# Altium schematic symbol library kmilo17pet-NSC_Amplifier.SchLib: 1665 symbols (part 30 of 44)
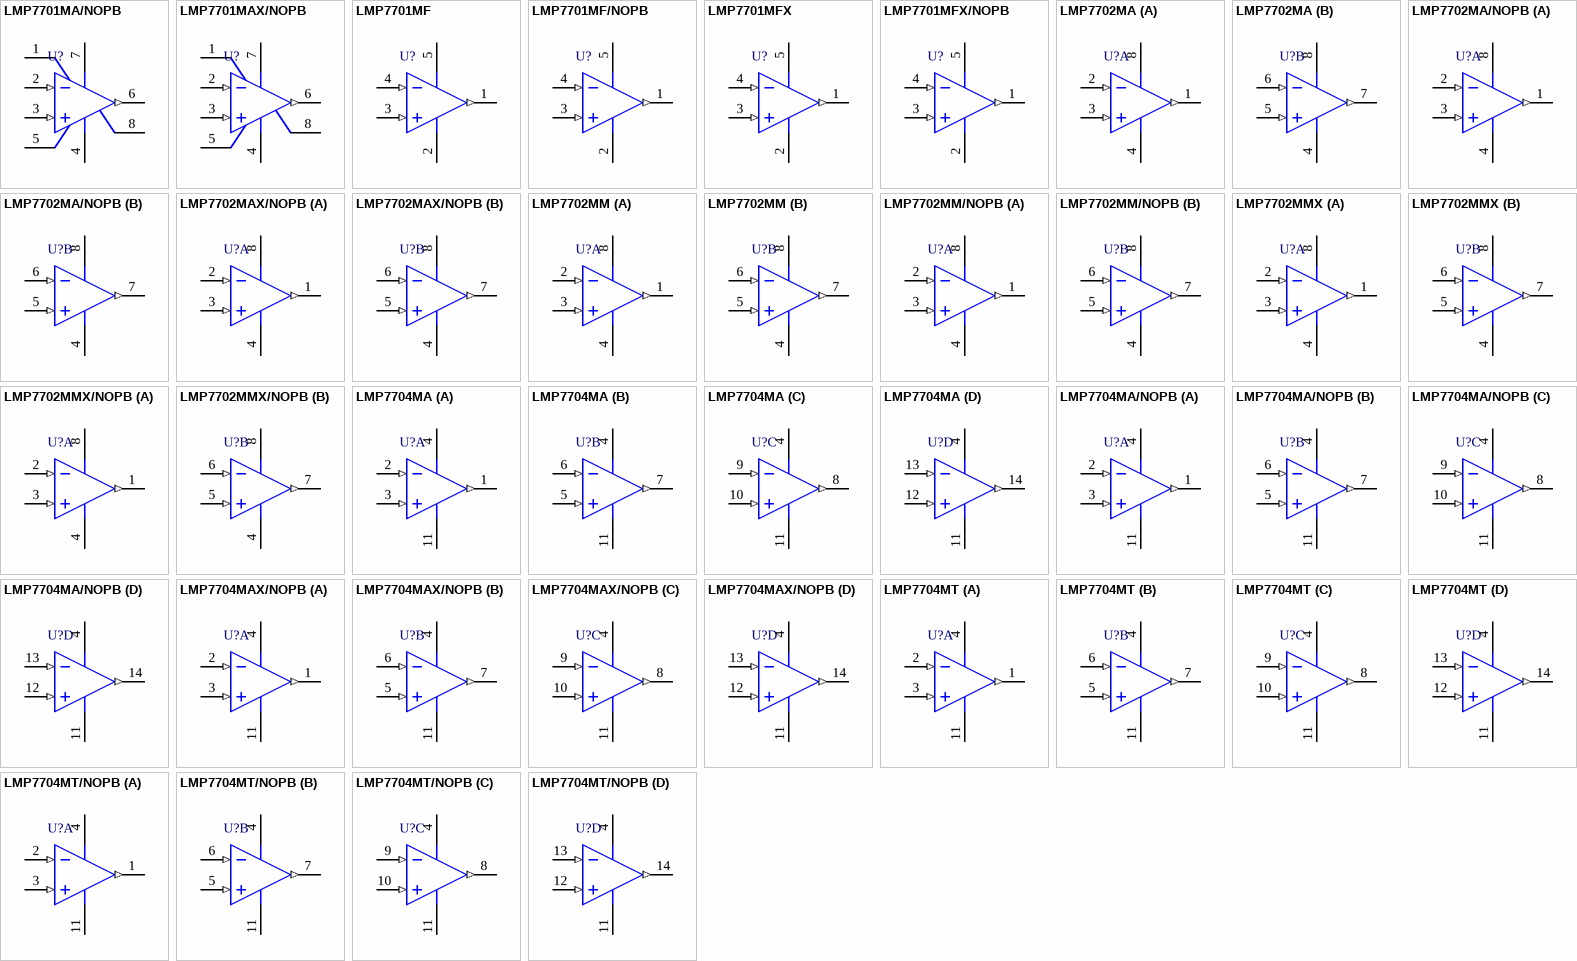
[diagram p113: symbols LMP7701MA/NOPB to LMP7704MT/NOPB]

## LMP7702MA/NOPB
designator U?
Precision, CMOS Input, RRIO, Wide Supply Range Amplifiers, 8-pin Narrow SOIC, Pb-Free; PartNumber: LMP7702MA/NOPB; Manufacturer: National Semiconductor; PackageTopMarking: NSZXTT*LMP77*02MA; PowerWise: N; High-Reliability: Y; DatasheetVersion: Jun-2008; PackageVersion: revM, May-2009; PackageReference: M08A; PackageDescription: SOIC Narrow, 4.9 x 3.9 x 1.45mm, 8 Lead, 1.27mm Pitch; RoHS: Y; PinCount: 8; CompType: Amplifiers; Code_JEDEC: MS-012-AA; Code_IPC: SOIC127P600-8; ComponentLink1Description: Manufacturer URL; ComponentLink1URL: http://www.national.com/; ComponentLink2Description: LMP7702 Datasheet; ComponentLink2URL: http://www.national.com/ds/LM/LMP7702.pdf; ComponentLink3Description: LMP7702 Web Page; ComponentLink3URL: http://www.national.com/pf/LM/LMP7702.html; ComponentLink4Description: M08A Package Page; ComponentLink4URL: http://www.national.com/packaging/folders/m08a.html
footprint M08A_N (SOIC, 8-Leads, Body 4.9x3.9mm, Pitch 1.27mm, IPC Medium Density)
footprint M08A_L (SOIC, 8-Leads, Body 4.9x3.9mm, Pitch 1.27mm, IPC High Density)
footprint M08A_M (SOIC, 8-Leads, Body 4.9x3.9mm, Pitch 1.27mm, IPC Low Density)
pins on every part: 4 V- (power), 8 V+ (power)
part A pins: 1 OUTA (out), 2 INA- (in), 3 INA+ (in)
part B pins: 5 INB+ (in), 6 INB- (in), 7 OUTB (out)

## LMP7702MAX/NOPB
designator U?
Precision, CMOS Input, RRIO, Wide Supply Range Amplifiers, 8-pin Narrow SOIC, Pb-Free; PartNumber: LMP7702MAX/NOPB; Manufacturer: National Semiconductor; PackageTopMarking: NSZXTT*LMP77*02MA; PowerWise: N; High-Reliability: Y; DatasheetVersion: Jun-2008; PackageVersion: revM, May-2009; PackageReference: M08A; PackageDescription: SOIC Narrow, 4.9 x 3.9 x 1.45mm, 8 Lead, 1.27mm Pitch; RoHS: Y; PinCount: 8; CompType: Amplifiers; Code_JEDEC: MS-012-AA; Code_IPC: SOIC127P600-8; ComponentLink1Description: Manufacturer URL; ComponentLink1URL: http://www.national.com/; ComponentLink2Description: LMP7702 Datasheet; ComponentLink2URL: http://www.national.com/ds/LM/LMP7702.pdf; ComponentLink3Description: LMP7702 Web Page; ComponentLink3URL: http://www.national.com/pf/LM/LMP7702.html; ComponentLink4Description: M08A Package Page; ComponentLink4URL: http://www.national.com/packaging/folders/m08a.html
footprint M08A_N (SOIC, 8-Leads, Body 4.9x3.9mm, Pitch 1.27mm, IPC Medium Density)
footprint M08A_L (SOIC, 8-Leads, Body 4.9x3.9mm, Pitch 1.27mm, IPC High Density)
footprint M08A_M (SOIC, 8-Leads, Body 4.9x3.9mm, Pitch 1.27mm, IPC Low Density)
pins on every part: 4 V- (power), 8 V+ (power)
part A pins: 1 OUTA (out), 2 INA- (in), 3 INA+ (in)
part B pins: 5 INB+ (in), 6 INB- (in), 7 OUTB (out)

## LMP7702MM
designator U?
Precision, CMOS Input, RRIO, Wide Supply Range Amplifiers, 8-pin Mini SOIC; PartNumber: LMP7702MM; Manufacturer: National Semiconductor; PackageTopMarking: ZXTT*AA3A; PowerWise: N; High-Reliability: Y; DatasheetVersion: Jun-2008; PackageVersion: revF, Apr-2008; PackageReference: MUA08A; PackageDescription: MINI SOIC, .118 x .118 x .034in, 8 Lead, .0256in Pitch; RoHS: N; PinCount: 8; CompType: Amplifiers; Code_JEDEC: MO-187-AA; ComponentLink1Description: Manufacturer URL; ComponentLink1URL: http://www.national.com/; ComponentLink2Description: LMP7702 Datasheet; ComponentLink2URL: http://www.national.com/ds/LM/LMP7702.pdf; ComponentLink3Description: LMP7702 Web Page; ComponentLink3URL: http://www.national.com/pf/LM/LMP7702.html; ComponentLink4Description: MUA08A Package Page; ComponentLink4URL: http://www.national.com/packaging/folders/mua08a.html
footprint MUA08A_N (TSOP, 8-Leads, Body 3x3mm, Pitch 0.65mm, IPC Medium Density)
footprint MUA08A_L (TSOP, 8-Leads, Body 3x3mm, Pitch 0.65mm, IPC High Density)
footprint MUA08A_M (TSOP, 8-Leads, Body 3x3mm, Pitch 0.65mm, IPC Low Density)
pins on every part: 4 V- (power), 8 V+ (power)
part A pins: 1 OUTA (out), 2 INA- (in), 3 INA+ (in)
part B pins: 5 INB+ (in), 6 INB- (in), 7 OUTB (out)

## LMP7702MM/NOPB
designator U?
Precision, CMOS Input, RRIO, Wide Supply Range Amplifiers, 8-pin Mini SOIC, Pb-Free; PartNumber: LMP7702MM/NOPB; Manufacturer: National Semiconductor; PackageTopMarking: ZXTT*AA3A; PowerWise: N; High-Reliability: Y; DatasheetVersion: Jun-2008; PackageVersion: revF, Apr-2008; PackageReference: MUA08A; PackageDescription: MINI SOIC, .118 x .118 x .034in, 8 Lead, .0256in Pitch; RoHS: Y; PinCount: 8; CompType: Amplifiers; Code_JEDEC: MO-187-AA; ComponentLink1Description: Manufacturer URL; ComponentLink1URL: http://www.national.com/; ComponentLink2Description: LMP7702 Datasheet; ComponentLink2URL: http://www.national.com/ds/LM/LMP7702.pdf; ComponentLink3Description: LMP7702 Web Page; ComponentLink3URL: http://www.national.com/pf/LM/LMP7702.html; ComponentLink4Description: MUA08A Package Page; ComponentLink4URL: http://www.national.com/packaging/folders/mua08a.html
footprint MUA08A_N (TSOP, 8-Leads, Body 3x3mm, Pitch 0.65mm, IPC Medium Density)
footprint MUA08A_L (TSOP, 8-Leads, Body 3x3mm, Pitch 0.65mm, IPC High Density)
footprint MUA08A_M (TSOP, 8-Leads, Body 3x3mm, Pitch 0.65mm, IPC Low Density)
pins on every part: 4 V- (power), 8 V+ (power)
part A pins: 1 OUTA (out), 2 INA- (in), 3 INA+ (in)
part B pins: 5 INB+ (in), 6 INB- (in), 7 OUTB (out)

## LMP7702MMX
designator U?
Precision, CMOS Input, RRIO, Wide Supply Range Amplifiers, 8-pin Mini SOIC; PartNumber: LMP7702MMX; Manufacturer: National Semiconductor; PackageTopMarking: ZXTT*AA3A; PowerWise: N; High-Reliability: Y; DatasheetVersion: Jun-2008; PackageVersion: revF, Apr-2008; PackageReference: MUA08A; PackageDescription: MINI SOIC, .118 x .118 x .034in, 8 Lead, .0256in Pitch; RoHS: N; PinCount: 8; CompType: Amplifiers; Code_JEDEC: MO-187-AA; ComponentLink1Description: Manufacturer URL; ComponentLink1URL: http://www.national.com/; ComponentLink2Description: LMP7702 Datasheet; ComponentLink2URL: http://www.national.com/ds/LM/LMP7702.pdf; ComponentLink3Description: LMP7702 Web Page; ComponentLink3URL: http://www.national.com/pf/LM/LMP7702.html; ComponentLink4Description: MUA08A Package Page; ComponentLink4URL: http://www.national.com/packaging/folders/mua08a.html
footprint MUA08A_N (TSOP, 8-Leads, Body 3x3mm, Pitch 0.65mm, IPC Medium Density)
footprint MUA08A_L (TSOP, 8-Leads, Body 3x3mm, Pitch 0.65mm, IPC High Density)
footprint MUA08A_M (TSOP, 8-Leads, Body 3x3mm, Pitch 0.65mm, IPC Low Density)
pins on every part: 4 V- (power), 8 V+ (power)
part A pins: 1 OUTA (out), 2 INA- (in), 3 INA+ (in)
part B pins: 5 INB+ (in), 6 INB- (in), 7 OUTB (out)

## LMP7702MMX/NOPB
designator U?
Precision, CMOS Input, RRIO, Wide Supply Range Amplifiers, 8-pin Mini SOIC, Pb-Free; PartNumber: LMP7702MMX/NOPB; Manufacturer: National Semiconductor; PackageTopMarking: ZXTT*AA3A; PowerWise: N; High-Reliability: Y; DatasheetVersion: Jun-2008; PackageVersion: revF, Apr-2008; PackageReference: MUA08A; PackageDescription: MINI SOIC, .118 x .118 x .034in, 8 Lead, .0256in Pitch; RoHS: Y; PinCount: 8; CompType: Amplifiers; Code_JEDEC: MO-187-AA; ComponentLink1Description: Manufacturer URL; ComponentLink1URL: http://www.national.com/; ComponentLink2Description: LMP7702 Datasheet; ComponentLink2URL: http://www.national.com/ds/LM/LMP7702.pdf; ComponentLink3Description: LMP7702 Web Page; ComponentLink3URL: http://www.national.com/pf/LM/LMP7702.html; ComponentLink4Description: MUA08A Package Page; ComponentLink4URL: http://www.national.com/packaging/folders/mua08a.html
footprint MUA08A_N (TSOP, 8-Leads, Body 3x3mm, Pitch 0.65mm, IPC Medium Density)
footprint MUA08A_L (TSOP, 8-Leads, Body 3x3mm, Pitch 0.65mm, IPC High Density)
footprint MUA08A_M (TSOP, 8-Leads, Body 3x3mm, Pitch 0.65mm, IPC Low Density)
pins on every part: 4 V- (power), 8 V+ (power)
part A pins: 1 OUTA (out), 2 INA- (in), 3 INA+ (in)
part B pins: 5 INB+ (in), 6 INB- (in), 7 OUTB (out)

## LMP7704MA
designator U?
Precision, CMOS Input, RRIO, Wide Supply Range Amplifiers, 14-pin Narrow SOIC; PartNumber: LMP7704MA; Manufacturer: National Semiconductor; PackageTopMarking: NSUZXYTT*LMP7704*MA; PowerWise: N; High-Reliability: Y; DatasheetVersion: Jun-2008; PackageVersion: revJ, Jan-1996; PackageReference: M14A; PackageDescription: Molded Package S.O., .150in Wide, 14 Lead; RoHS: Y; PinCount: 14; CompType: Amplifiers; Code_JEDEC: MS-012AB; Code_IPC: SOIC127P600-14; ComponentLink1Description: Manufacturer URL; ComponentLink1URL: http://www.national.com/; ComponentLink2Description: LMP7704 Datasheet; ComponentLink2URL: http://www.national.com/ds/LM/LMP7704.pdf; ComponentLink3Description: LMP7704 Web Page; ComponentLink3URL: http://www.national.com/pf/LM/LMP7704.html; ComponentLink4Description: M14A Package Page; ComponentLink4URL: http://www.national.com/packaging/folders/m14a.html
footprint M14A_N (SOIC, 14-Leads, Body 8.6x3.9mm, Pitch 1.27mm, IPC Medium Density)
footprint M14A_L (SOIC, 14-Leads, Body 8.6x3.9mm, Pitch 1.27mm, IPC High Density)
footprint M14A_M (SOIC, 14-Leads, Body 8.6x3.9mm, Pitch 1.27mm, IPC Low Density)
pins on every part: 4 V+ (power), 11 V- (power)
part A pins: 1 OUTA (out), 2 INA- (in), 3 INA+ (in)
part B pins: 5 INB+ (in), 6 INB- (in), 7 OUTB (out)
part C pins: 8 OUTC (out), 9 INC- (in), 10 INC+ (in)
part D pins: 12 IND+ (in), 13 IND- (in), 14 OUTD (out)

## LMP7704MA/NOPB
designator U?
Precision, CMOS Input, RRIO, Wide Supply Range Amplifiers, 14-pin Narrow SOIC, Pb-Free; PartNumber: LMP7704MA/NOPB; Manufacturer: National Semiconductor; PackageTopMarking: NSUZXYTTE#*LMP7704*MA; PowerWise: N; High-Reliability: Y; DatasheetVersion: Jun-2008; PackageVersion: revJ, Jan-1996; PackageReference: M14A; PackageDescription: Molded Package S.O., .150in Wide, 14 Lead; RoHS: Y; PinCount: 14; CompType: Amplifiers; Code_JEDEC: MS-012AB; Code_IPC: SOIC127P600-14; ComponentLink1Description: Manufacturer URL; ComponentLink1URL: http://www.national.com/; ComponentLink2Description: LMP7704 Datasheet; ComponentLink2URL: http://www.national.com/ds/LM/LMP7704.pdf; ComponentLink3Description: LMP7704 Web Page; ComponentLink3URL: http://www.national.com/pf/LM/LMP7704.html; ComponentLink4Description: M14A Package Page; ComponentLink4URL: http://www.national.com/packaging/folders/m14a.html
footprint M14A_N (SOIC, 14-Leads, Body 8.6x3.9mm, Pitch 1.27mm, IPC Medium Density)
footprint M14A_L (SOIC, 14-Leads, Body 8.6x3.9mm, Pitch 1.27mm, IPC High Density)
footprint M14A_M (SOIC, 14-Leads, Body 8.6x3.9mm, Pitch 1.27mm, IPC Low Density)
pins on every part: 4 V+ (power), 11 V- (power)
part A pins: 1 OUTA (out), 2 INA- (in), 3 INA+ (in)
part B pins: 5 INB+ (in), 6 INB- (in), 7 OUTB (out)
part C pins: 8 OUTC (out), 9 INC- (in), 10 INC+ (in)
part D pins: 12 IND+ (in), 13 IND- (in), 14 OUTD (out)

## LMP7704MAX/NOPB
designator U?
Precision, CMOS Input, RRIO, Wide Supply Range Amplifiers, 14-pin Narrow SOIC, Pb-Free; PartNumber: LMP7704MAX/NOPB; Manufacturer: National Semiconductor; PackageTopMarking: NSUZXYTTE#*LMP7704*MA; PowerWise: N; High-Reliability: Y; DatasheetVersion: Jun-2008; PackageVersion: revJ, Jan-1996; PackageReference: M14A; PackageDescription: Molded Package S.O., .150in Wide, 14 Lead; RoHS: Y; PinCount: 14; CompType: Amplifiers; Code_JEDEC: MS-012AB; Code_IPC: SOIC127P600-14; ComponentLink1Description: Manufacturer URL; ComponentLink1URL: http://www.national.com/; ComponentLink2Description: LMP7704 Datasheet; ComponentLink2URL: http://www.national.com/ds/LM/LMP7704.pdf; ComponentLink3Description: LMP7704 Web Page; ComponentLink3URL: http://www.national.com/pf/LM/LMP7704.html; ComponentLink4Description: M14A Package Page; ComponentLink4URL: http://www.national.com/packaging/folders/m14a.html
footprint M14A_N (SOIC, 14-Leads, Body 8.6x3.9mm, Pitch 1.27mm, IPC Medium Density)
footprint M14A_L (SOIC, 14-Leads, Body 8.6x3.9mm, Pitch 1.27mm, IPC High Density)
footprint M14A_M (SOIC, 14-Leads, Body 8.6x3.9mm, Pitch 1.27mm, IPC Low Density)
pins on every part: 4 V+ (power), 11 V- (power)
part A pins: 1 OUTA (out), 2 INA- (in), 3 INA+ (in)
part B pins: 5 INB+ (in), 6 INB- (in), 7 OUTB (out)
part C pins: 8 OUTC (out), 9 INC- (in), 10 INC+ (in)
part D pins: 12 IND+ (in), 13 IND- (in), 14 OUTD (out)

## LMP7704MT
designator U?
Precision, CMOS Input, RRIO, Wide Supply Range Amplifiers, 14-pin TSSOP; PartNumber: LMP7704MT; Manufacturer: National Semiconductor; PackageTopMarking: NSUZXYTT*LMP77*04MT; PowerWise: N; High-Reliability: Y; DatasheetVersion: Jun-2008; PackageVersion: revD, Jun-2003; PackageReference: MTC14; PackageDescription: Molded TSSOP, JEDEC, 5 x 4.4 x 0.9mm Body, 14 Lead, 0.65mm Pitch; RoHS: N; PinCount: 14; CompType: Amplifiers; Code_JEDEC: MO-153-AB-1; ComponentLink1Description: Manufacturer URL; ComponentLink1URL: http://www.national.com/; ComponentLink2Description: LMP7704 Datasheet; ComponentLink2URL: http://www.national.com/ds/LM/LMP7704.pdf; ComponentLink3Description: LMP7704 Web Page; ComponentLink3URL: http://www.national.com/pf/LM/LMP7704.html; ComponentLink4Description: MTC14 Package Page; ComponentLink4URL: http://www.national.com/packaging/folders/mtc14.html
footprint MTC14_N (TSOP, 14-Leads, Body 5x4.4mm, Pitch 0.65mm, IPC Medium Density)
footprint MTC14_L (TSOP, 14-Leads, Body 5x4.4mm, Pitch 0.65mm, IPC High Density)
footprint MTC14_M (TSOP, 14-Leads, Body 5x4.4mm, Pitch 0.65mm, IPC Low Density)
pins on every part: 4 V+ (power), 11 V- (power)
part A pins: 1 OUTA (out), 2 INA- (in), 3 INA+ (in)
part B pins: 5 INB+ (in), 6 INB- (in), 7 OUTB (out)
part C pins: 8 OUTC (out), 9 INC- (in), 10 INC+ (in)
part D pins: 12 IND+ (in), 13 IND- (in), 14 OUTD (out)

## LMP7704MT/NOPB
designator U?
Precision, CMOS Input, RRIO, Wide Supply Range Amplifiers, 14-pin TSSOP, Pb-Free; PartNumber: LMP7704MT/NOPB; Manufacturer: National Semiconductor; PackageTopMarking: NSUZXYTT*LMP77*04MT; PowerWise: N; High-Reliability: Y; DatasheetVersion: Jun-2008; PackageVersion: revD, Jun-2003; PackageReference: MTC14; PackageDescription: Molded TSSOP, JEDEC, 5 x 4.4 x 0.9mm Body, 14 Lead, 0.65mm Pitch; RoHS: Y; PinCount: 14; CompType: Amplifiers; Code_JEDEC: MO-153-AB-1; ComponentLink1Description: Manufacturer URL; ComponentLink1URL: http://www.national.com/; ComponentLink2Description: LMP7704 Datasheet; ComponentLink2URL: http://www.national.com/ds/LM/LMP7704.pdf; ComponentLink3Description: LMP7704 Web Page; ComponentLink3URL: http://www.national.com/pf/LM/LMP7704.html; ComponentLink4Description: MTC14 Package Page; ComponentLink4URL: http://www.national.com/packaging/folders/mtc14.html
footprint MTC14_N (TSOP, 14-Leads, Body 5x4.4mm, Pitch 0.65mm, IPC Medium Density)
footprint MTC14_L (TSOP, 14-Leads, Body 5x4.4mm, Pitch 0.65mm, IPC High Density)
footprint MTC14_M (TSOP, 14-Leads, Body 5x4.4mm, Pitch 0.65mm, IPC Low Density)
pins on every part: 4 V+ (power), 11 V- (power)
part A pins: 1 OUTA (out), 2 INA- (in), 3 INA+ (in)
part B pins: 5 INB+ (in), 6 INB- (in), 7 OUTB (out)
part C pins: 8 OUTC (out), 9 INC- (in), 10 INC+ (in)
part D pins: 12 IND+ (in), 13 IND- (in), 14 OUTD (out)

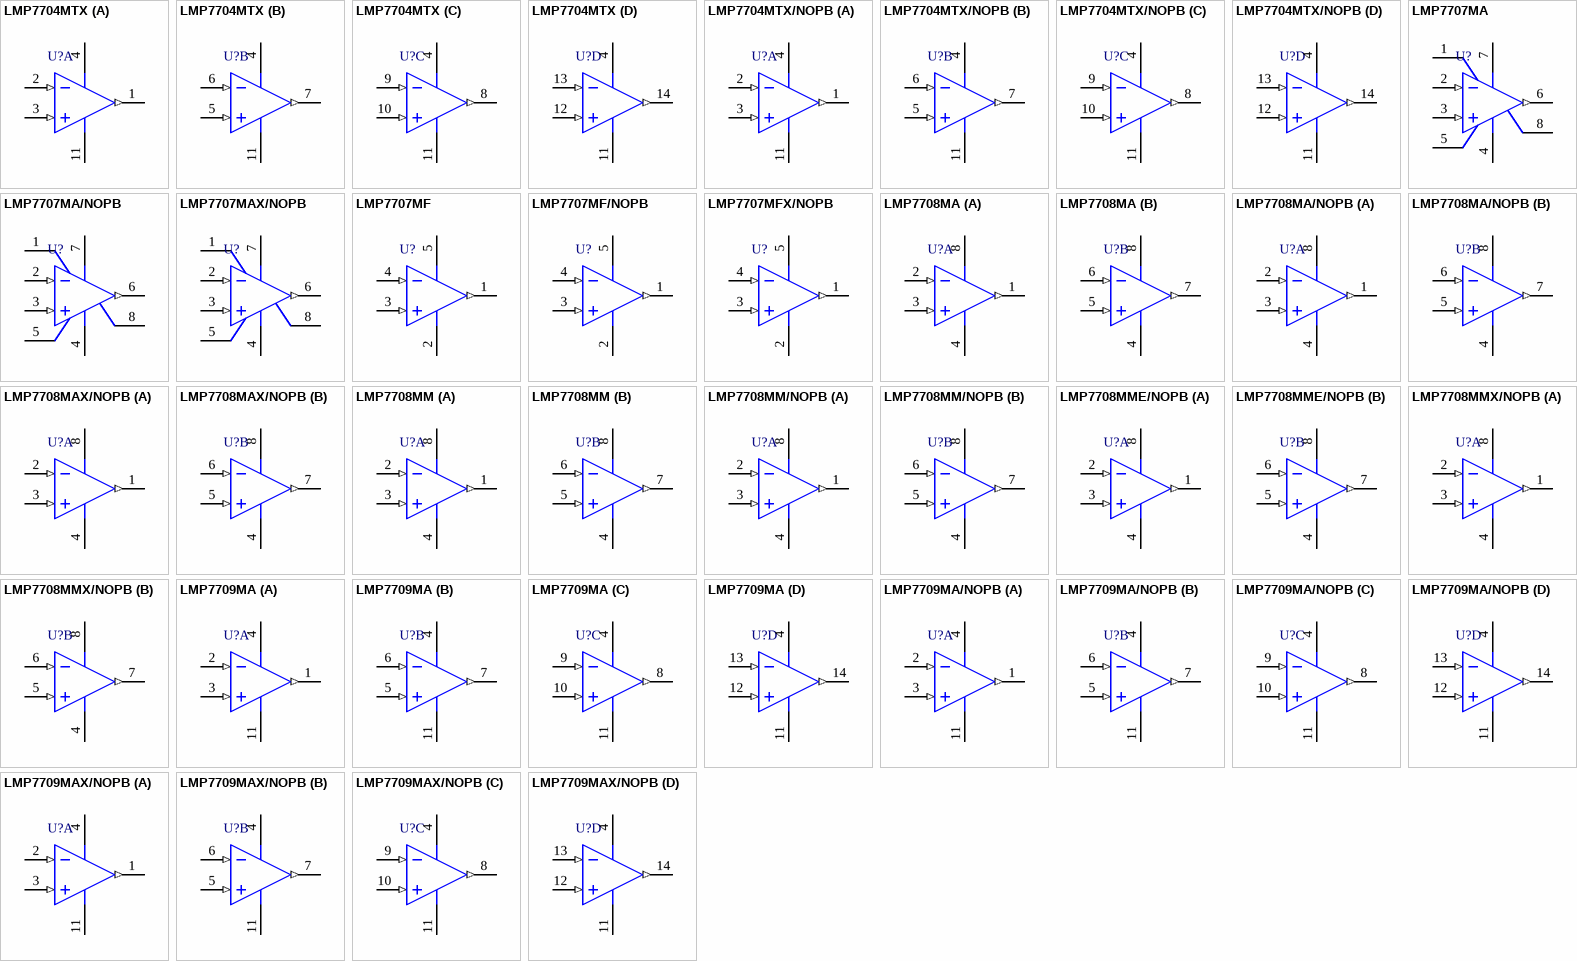
[diagram p60: symbols LMP7704MTX to LMP7709MAX/NOPB]

## LMP7704MTX
designator U?
Precision, CMOS Input, RRIO, Wide Supply Range Amplifiers, 14-pin TSSOP; PartNumber: LMP7704MTX; Manufacturer: National Semiconductor; PackageTopMarking: NSUZXYTT*LMP77*04MT; PowerWise: N; High-Reliability: Y; DatasheetVersion: Jun-2008; PackageVersion: revD, Jun-2003; PackageReference: MTC14; PackageDescription: Molded TSSOP, JEDEC, 5 x 4.4 x 0.9mm Body, 14 Lead, 0.65mm Pitch; RoHS: N; PinCount: 14; CompType: Amplifiers; Code_JEDEC: MO-153-AB-1; ComponentLink1Description: Manufacturer URL; ComponentLink1URL: http://www.national.com/; ComponentLink2Description: LMP7704 Datasheet; ComponentLink2URL: http://www.national.com/ds/LM/LMP7704.pdf; ComponentLink3Description: LMP7704 Web Page; ComponentLink3URL: http://www.national.com/pf/LM/LMP7704.html; ComponentLink4Description: MTC14 Package Page; ComponentLink4URL: http://www.national.com/packaging/folders/mtc14.html
footprint MTC14_N (TSOP, 14-Leads, Body 5x4.4mm, Pitch 0.65mm, IPC Medium Density)
footprint MTC14_L (TSOP, 14-Leads, Body 5x4.4mm, Pitch 0.65mm, IPC High Density)
footprint MTC14_M (TSOP, 14-Leads, Body 5x4.4mm, Pitch 0.65mm, IPC Low Density)
pins on every part: 4 V+ (power), 11 V- (power)
part A pins: 1 OUTA (out), 2 INA- (in), 3 INA+ (in)
part B pins: 5 INB+ (in), 6 INB- (in), 7 OUTB (out)
part C pins: 8 OUTC (out), 9 INC- (in), 10 INC+ (in)
part D pins: 12 IND+ (in), 13 IND- (in), 14 OUTD (out)

## LMP7704MTX/NOPB
designator U?
Precision, CMOS Input, RRIO, Wide Supply Range Amplifiers, 14-pin TSSOP, Pb-Free; PartNumber: LMP7704MTX/NOPB; Manufacturer: National Semiconductor; PackageTopMarking: NSUZXYTT*LMP77*04MT; PowerWise: N; High-Reliability: Y; DatasheetVersion: Jun-2008; PackageVersion: revD, Jun-2003; PackageReference: MTC14; PackageDescription: Molded TSSOP, JEDEC, 5 x 4.4 x 0.9mm Body, 14 Lead, 0.65mm Pitch; RoHS: Y; PinCount: 14; CompType: Amplifiers; Code_JEDEC: MO-153-AB-1; ComponentLink1Description: Manufacturer URL; ComponentLink1URL: http://www.national.com/; ComponentLink2Description: LMP7704 Datasheet; ComponentLink2URL: http://www.national.com/ds/LM/LMP7704.pdf; ComponentLink3Description: LMP7704 Web Page; ComponentLink3URL: http://www.national.com/pf/LM/LMP7704.html; ComponentLink4Description: MTC14 Package Page; ComponentLink4URL: http://www.national.com/packaging/folders/mtc14.html
footprint MTC14_N (TSOP, 14-Leads, Body 5x4.4mm, Pitch 0.65mm, IPC Medium Density)
footprint MTC14_L (TSOP, 14-Leads, Body 5x4.4mm, Pitch 0.65mm, IPC High Density)
footprint MTC14_M (TSOP, 14-Leads, Body 5x4.4mm, Pitch 0.65mm, IPC Low Density)
pins on every part: 4 V+ (power), 11 V- (power)
part A pins: 1 OUTA (out), 2 INA- (in), 3 INA+ (in)
part B pins: 5 INB+ (in), 6 INB- (in), 7 OUTB (out)
part C pins: 8 OUTC (out), 9 INC- (in), 10 INC+ (in)
part D pins: 12 IND+ (in), 13 IND- (in), 14 OUTD (out)

## LMP7707MA
designator U?
Precision, CMOS Input, RRIO, Wide Supply Range Decompensated Amplifier, 8-pin Narrow SOIC; PartNumber: LMP7707MA; Manufacturer: National Semiconductor; PackageTopMarking: NSZXTT*LMP77*07MA; PowerWise: N; CompType: Amplifiers; High-Reliability: Y; DatasheetVersion: Jul-2008; PackageVersion: revM, May-2009; PackageReference: M08A; PackageDescription: SOIC Narrow, 4.9 x 3.9 x 1.45mm, 8 Lead, 1.27mm Pitch; RoHS: Y; PinCount: 8; Code_JEDEC: MS-012-AA; Code_IPC: SOIC127P600-8; ComponentLink1Description: Manufacturer URL; ComponentLink1URL: http://www.national.com/; ComponentLink2Description: LMP7707 Datasheet; ComponentLink2URL: http://www.national.com/ds/LM/LMP7707.pdf; ComponentLink3Description: LMP7707 Web Page; ComponentLink3URL: http://www.national.com/pf/LM/LMP7707.html; ComponentLink4Description: M08A Package Page; ComponentLink4URL: http://www.national.com/packaging/folders/m08a.html
footprint M08A_N (SOIC, 8-Leads, Body 4.9x3.9mm, Pitch 1.27mm, IPC Medium Density)
footprint M08A_L (SOIC, 8-Leads, Body 4.9x3.9mm, Pitch 1.27mm, IPC High Density)
footprint M08A_M (SOIC, 8-Leads, Body 4.9x3.9mm, Pitch 1.27mm, IPC Low Density)
pins: 1 NC, 2 IN- (in), 3 IN+ (in), 4 V- (power), 5 NC, 6 OUT (out), 7 V+ (power), 8 NC

## LMP7707MA/NOPB
designator U?
Precision, CMOS Input, RRIO, Wide Supply Range Decompensated Amplifier, 8-pin Narrow SOIC, Pb-Free; PartNumber: LMP7707MA/NOPB; Manufacturer: National Semiconductor; PackageTopMarking: NSZXTT*LMP77*07MA; PowerWise: N; CompType: Amplifiers; High-Reliability: Y; DatasheetVersion: Jul-2008; PackageVersion: revM, May-2009; PackageReference: M08A; PackageDescription: SOIC Narrow, 4.9 x 3.9 x 1.45mm, 8 Lead, 1.27mm Pitch; RoHS: Y; PinCount: 8; Code_JEDEC: MS-012-AA; Code_IPC: SOIC127P600-8; ComponentLink1Description: Manufacturer URL; ComponentLink1URL: http://www.national.com/; ComponentLink2Description: LMP7707 Datasheet; ComponentLink2URL: http://www.national.com/ds/LM/LMP7707.pdf; ComponentLink3Description: LMP7707 Web Page; ComponentLink3URL: http://www.national.com/pf/LM/LMP7707.html; ComponentLink4Description: M08A Package Page; ComponentLink4URL: http://www.national.com/packaging/folders/m08a.html
footprint M08A_N (SOIC, 8-Leads, Body 4.9x3.9mm, Pitch 1.27mm, IPC Medium Density)
footprint M08A_L (SOIC, 8-Leads, Body 4.9x3.9mm, Pitch 1.27mm, IPC High Density)
footprint M08A_M (SOIC, 8-Leads, Body 4.9x3.9mm, Pitch 1.27mm, IPC Low Density)
pins: 1 NC, 2 IN- (in), 3 IN+ (in), 4 V- (power), 5 NC, 6 OUT (out), 7 V+ (power), 8 NC

## LMP7707MAX/NOPB
designator U?
Precision, CMOS Input, RRIO, Wide Supply Range Decompensated Amplifier, 8-pin Narrow SOIC, Pb-Free; PartNumber: LMP7707MAX/NOPB; Manufacturer: National Semiconductor; PackageTopMarking: NSZXTT*LMP77*07MA; PowerWise: N; CompType: Amplifiers; High-Reliability: Y; DatasheetVersion: Jul-2008; PackageVersion: revM, May-2009; PackageReference: M08A; PackageDescription: SOIC Narrow, 4.9 x 3.9 x 1.45mm, 8 Lead, 1.27mm Pitch; RoHS: Y; PinCount: 8; Code_JEDEC: MS-012-AA; Code_IPC: SOIC127P600-8; ComponentLink1Description: Manufacturer URL; ComponentLink1URL: http://www.national.com/; ComponentLink2Description: LMP7707 Datasheet; ComponentLink2URL: http://www.national.com/ds/LM/LMP7707.pdf; ComponentLink3Description: LMP7707 Web Page; ComponentLink3URL: http://www.national.com/pf/LM/LMP7707.html; ComponentLink4Description: M08A Package Page; ComponentLink4URL: http://www.national.com/packaging/folders/m08a.html
footprint M08A_N (SOIC, 8-Leads, Body 4.9x3.9mm, Pitch 1.27mm, IPC Medium Density)
footprint M08A_L (SOIC, 8-Leads, Body 4.9x3.9mm, Pitch 1.27mm, IPC High Density)
footprint M08A_M (SOIC, 8-Leads, Body 4.9x3.9mm, Pitch 1.27mm, IPC Low Density)
pins: 1 NC, 2 IN- (in), 3 IN+ (in), 4 V- (power), 5 NC, 6 OUT (out), 7 V+ (power), 8 NC

## LMP7707MF
designator U?
Precision, CMOS Input, RRIO, Wide Supply Range Decompensated Amplifier, 5-pin SOT-23; PartNumber: LMP7707MF; Manufacturer: National Semiconductor; PackageTopMarking: AH4A*XTT; PowerWise: Y; CompType: Amplifiers; DatasheetVersion: Jul-2008; PackageVersion: revD, Aug-2008; PackageReference: MF05A; PackageDescription: Molded SOT-23, .115 x .063 x .040 in Body, 5 Lead, .0375 in Pitch; RoHS: Y; PinCount: 5; High-Reliability: Y; ComponentLink1Description: Manufacturer URL; ComponentLink1URL: http://www.national.com/; ComponentLink2Description: LMP7707 Datasheet; ComponentLink2URL: http://www.national.com/ds/LM/LMP7707.pdf; ComponentLink3Description: LMP7707 Web Page; ComponentLink3URL: http://www.national.com/pf/LM/LMP7707.html; ComponentLink4Description: MF05A Package Page; ComponentLink4URL: http://www.national.com/packaging/folders/mf05a.html
footprint MF05A_N (SOT23, 5-Leads, Body 2.9x1.6mm, Pitch 0.95mm, Lead Span 2.8mm, IPC Medium Density)
footprint MF05A_L (SOT23, 5-Leads, Body 2.9x1.6mm, Pitch 0.95mm, Lead Span 2.8mm, IPC High Density)
footprint MF05A_M (SOT23, 5-Leads, Body 2.9x1.6mm, Pitch 0.95mm, Lead Span 2.8mm, IPC Low Density)
pins: 1 OUT (out), 2 V- (power), 3 IN+ (in), 4 IN- (in), 5 V+ (power)

## LMP7707MF/NOPB
designator U?
Precision, CMOS Input, RRIO, Wide Supply Range Decompensated Amplifier, 5-pin SOT-23, Pb-Free; PartNumber: LMP7707MF/NOPB; Manufacturer: National Semiconductor; PackageTopMarking: AH4A*XTT; PowerWise: Y; CompType: Amplifiers; DatasheetVersion: Jul-2008; PackageVersion: revD, Aug-2008; PackageReference: MF05A; PackageDescription: Molded SOT-23, .115 x .063 x .040 in Body, 5 Lead, .0375 in Pitch; RoHS: Y; PinCount: 5; High-Reliability: Y; ComponentLink1Description: Manufacturer URL; ComponentLink1URL: http://www.national.com/; ComponentLink2Description: LMP7707 Datasheet; ComponentLink2URL: http://www.national.com/ds/LM/LMP7707.pdf; ComponentLink3Description: LMP7707 Web Page; ComponentLink3URL: http://www.national.com/pf/LM/LMP7707.html; ComponentLink4Description: MF05A Package Page; ComponentLink4URL: http://www.national.com/packaging/folders/mf05a.html
footprint MF05A_N (SOT23, 5-Leads, Body 2.9x1.6mm, Pitch 0.95mm, Lead Span 2.8mm, IPC Medium Density)
footprint MF05A_L (SOT23, 5-Leads, Body 2.9x1.6mm, Pitch 0.95mm, Lead Span 2.8mm, IPC High Density)
footprint MF05A_M (SOT23, 5-Leads, Body 2.9x1.6mm, Pitch 0.95mm, Lead Span 2.8mm, IPC Low Density)
pins: 1 OUT (out), 2 V- (power), 3 IN+ (in), 4 IN- (in), 5 V+ (power)

## LMP7707MFX/NOPB
designator U?
Precision, CMOS Input, RRIO, Wide Supply Range Decompensated Amplifier, 5-pin SOT-23, Pb-Free; PartNumber: LMP7707MFX/NOPB; Manufacturer: National Semiconductor; PackageTopMarking: AH4A*XTT; PowerWise: Y; CompType: Amplifiers; DatasheetVersion: Jul-2008; PackageVersion: revD, Aug-2008; PackageReference: MF05A; PackageDescription: Molded SOT-23, .115 x .063 x .040 in Body, 5 Lead, .0375 in Pitch; RoHS: Y; PinCount: 5; High-Reliability: Y; ComponentLink1Description: Manufacturer URL; ComponentLink1URL: http://www.national.com/; ComponentLink2Description: LMP7707 Datasheet; ComponentLink2URL: http://www.national.com/ds/LM/LMP7707.pdf; ComponentLink3Description: LMP7707 Web Page; ComponentLink3URL: http://www.national.com/pf/LM/LMP7707.html; ComponentLink4Description: MF05A Package Page; ComponentLink4URL: http://www.national.com/packaging/folders/mf05a.html
footprint MF05A_N (SOT23, 5-Leads, Body 2.9x1.6mm, Pitch 0.95mm, Lead Span 2.8mm, IPC Medium Density)
footprint MF05A_L (SOT23, 5-Leads, Body 2.9x1.6mm, Pitch 0.95mm, Lead Span 2.8mm, IPC High Density)
footprint MF05A_M (SOT23, 5-Leads, Body 2.9x1.6mm, Pitch 0.95mm, Lead Span 2.8mm, IPC Low Density)
pins: 1 OUT (out), 2 V- (power), 3 IN+ (in), 4 IN- (in), 5 V+ (power)

## LMP7708MA
designator U?
Precision, CMOS Input, RRIO, Wide Supply Range Decompensated Amplifier, 8-pin Narrow SOIC; PartNumber: LMP7708MA; Manufacturer: National Semiconductor; PackageTopMarking: NSZXTT*LMP77*08MA; PowerWise: Y; CompType: Amplifiers; DatasheetVersion: Jul-2008; PackageVersion: revM, May-2009; PackageReference: M08A; PackageDescription: SOIC Narrow, 4.9 x 3.9 x 1.45mm, 8 Lead, 1.27mm Pitch; RoHS: Y; PinCount: 8; High-Reliability: Y; Code_JEDEC: MS-012-AA; Code_IPC: SOIC127P600-8; ComponentLink1Description: Manufacturer URL; ComponentLink1URL: http://www.national.com/; ComponentLink2Description: LMP7708 Datasheet; ComponentLink2URL: http://www.national.com/ds/LM/LMP7708.pdf; ComponentLink3Description: LMP7708 Web Page; ComponentLink3URL: http://www.national.com/pf/LM/LMP7708.html; ComponentLink4Description: M08A Package Page; ComponentLink4URL: http://www.national.com/packaging/folders/m08a.html
footprint M08A_N (SOIC, 8-Leads, Body 4.9x3.9mm, Pitch 1.27mm, IPC Medium Density)
footprint M08A_L (SOIC, 8-Leads, Body 4.9x3.9mm, Pitch 1.27mm, IPC High Density)
footprint M08A_M (SOIC, 8-Leads, Body 4.9x3.9mm, Pitch 1.27mm, IPC Low Density)
pins on every part: 4 V- (power), 8 V+ (power)
part A pins: 1 OUTA (out), 2 INA- (in), 3 INA+ (in)
part B pins: 5 INB+ (in), 6 INB- (in), 7 OUTB (out)

## LMP7708MA/NOPB
designator U?
Precision, CMOS Input, RRIO, Wide Supply Range Decompensated Amplifier, 8-pin Narrow SOIC, Pb-Free; PartNumber: LMP7708MA/NOPB; Manufacturer: National Semiconductor; PackageTopMarking: NSZXTT*LMP77*08MA; PowerWise: Y; CompType: Amplifiers; DatasheetVersion: Jul-2008; PackageVersion: revM, May-2009; PackageReference: M08A; PackageDescription: SOIC Narrow, 4.9 x 3.9 x 1.45mm, 8 Lead, 1.27mm Pitch; RoHS: Y; PinCount: 8; High-Reliability: Y; Code_JEDEC: MS-012-AA; Code_IPC: SOIC127P600-8; ComponentLink1Description: Manufacturer URL; ComponentLink1URL: http://www.national.com/; ComponentLink2Description: LMP7708 Datasheet; ComponentLink2URL: http://www.national.com/ds/LM/LMP7708.pdf; ComponentLink3Description: LMP7708 Web Page; ComponentLink3URL: http://www.national.com/pf/LM/LMP7708.html; ComponentLink4Description: M08A Package Page; ComponentLink4URL: http://www.national.com/packaging/folders/m08a.html
footprint M08A_N (SOIC, 8-Leads, Body 4.9x3.9mm, Pitch 1.27mm, IPC Medium Density)
footprint M08A_L (SOIC, 8-Leads, Body 4.9x3.9mm, Pitch 1.27mm, IPC High Density)
footprint M08A_M (SOIC, 8-Leads, Body 4.9x3.9mm, Pitch 1.27mm, IPC Low Density)
pins on every part: 4 V- (power), 8 V+ (power)
part A pins: 1 OUTA (out), 2 INA- (in), 3 INA+ (in)
part B pins: 5 INB+ (in), 6 INB- (in), 7 OUTB (out)

## LMP7708MAX/NOPB
designator U?
Precision, CMOS Input, RRIO, Wide Supply Range Decompensated Amplifier, 8-pin Narrow SOIC, Pb-Free; PartNumber: LMP7708MAX/NOPB; Manufacturer: National Semiconductor; PackageTopMarking: NSZXTT*LMP77*08MA; PowerWise: Y; CompType: Amplifiers; DatasheetVersion: Jul-2008; PackageVersion: revM, May-2009; PackageReference: M08A; PackageDescription: SOIC Narrow, 4.9 x 3.9 x 1.45mm, 8 Lead, 1.27mm Pitch; RoHS: Y; PinCount: 8; High-Reliability: Y; Code_JEDEC: MS-012-AA; Code_IPC: SOIC127P600-8; ComponentLink1Description: Manufacturer URL; ComponentLink1URL: http://www.national.com/; ComponentLink2Description: LMP7708 Datasheet; ComponentLink2URL: http://www.national.com/ds/LM/LMP7708.pdf; ComponentLink3Description: LMP7708 Web Page; ComponentLink3URL: http://www.national.com/pf/LM/LMP7708.html; ComponentLink4Description: M08A Package Page; ComponentLink4URL: http://www.national.com/packaging/folders/m08a.html
footprint M08A_N (SOIC, 8-Leads, Body 4.9x3.9mm, Pitch 1.27mm, IPC Medium Density)
footprint M08A_L (SOIC, 8-Leads, Body 4.9x3.9mm, Pitch 1.27mm, IPC High Density)
footprint M08A_M (SOIC, 8-Leads, Body 4.9x3.9mm, Pitch 1.27mm, IPC Low Density)
pins on every part: 4 V- (power), 8 V+ (power)
part A pins: 1 OUTA (out), 2 INA- (in), 3 INA+ (in)
part B pins: 5 INB+ (in), 6 INB- (in), 7 OUTB (out)

## LMP7708MM
designator U?
Precision, CMOS Input, RRIO, Wide Supply Range Decompensated Amplifier, 8-pin Mini SOIC; PartNumber: LMP7708MM; Manufacturer: National Semiconductor; PackageTopMarking: ZXTT*AJ4A; PowerWise: Y; CompType: Amplifiers; DatasheetVersion: Jul-2008; PackageVersion: revF, Apr-2008; PackageReference: MUA08A; PackageDescription: MINI SOIC, .118 x .118 x .034in, 8 Lead, .0256in Pitch; RoHS: Y; PinCount: 8; High-Reliability: Y; Code_JEDEC: MO-187-AA; ComponentLink1Description: Manufacturer URL; ComponentLink1URL: http://www.national.com/; ComponentLink2Description: LMP7708 Datasheet; ComponentLink2URL: http://www.national.com/ds/LM/LMP7708.pdf; ComponentLink3Description: LMP7708 Web Page; ComponentLink3URL: http://www.national.com/pf/LM/LMP7708.html; ComponentLink4Description: MUA08A Package Page; ComponentLink4URL: http://www.national.com/packaging/folders/mua08a.html
footprint MUA08A_N (TSOP, 8-Leads, Body 3x3mm, Pitch 0.65mm, IPC Medium Density)
footprint MUA08A_L (TSOP, 8-Leads, Body 3x3mm, Pitch 0.65mm, IPC High Density)
footprint MUA08A_M (TSOP, 8-Leads, Body 3x3mm, Pitch 0.65mm, IPC Low Density)
pins on every part: 4 V- (power), 8 V+ (power)
part A pins: 1 OUTA (out), 2 INA- (in), 3 INA+ (in)
part B pins: 5 INB+ (in), 6 INB- (in), 7 OUTB (out)

## LMP7708MM/NOPB
designator U?
Precision, CMOS Input, RRIO, Wide Supply Range Decompensated Amplifier, 8-pin Mini SOIC, Pb-Free; PartNumber: LMP7708MM/NOPB; Manufacturer: National Semiconductor; PackageTopMarking: ZXTT*AJ4A; PowerWise: Y; CompType: Amplifiers; DatasheetVersion: Jul-2008; PackageVersion: revF, Apr-2008; PackageReference: MUA08A; PackageDescription: MINI SOIC, .118 x .118 x .034in, 8 Lead, .0256in Pitch; RoHS: Y; PinCount: 8; High-Reliability: Y; Code_JEDEC: MO-187-AA; ComponentLink1Description: Manufacturer URL; ComponentLink1URL: http://www.national.com/; ComponentLink2Description: LMP7708 Datasheet; ComponentLink2URL: http://www.national.com/ds/LM/LMP7708.pdf; ComponentLink3Description: LMP7708 Web Page; ComponentLink3URL: http://www.national.com/pf/LM/LMP7708.html; ComponentLink4Description: MUA08A Package Page; ComponentLink4URL: http://www.national.com/packaging/folders/mua08a.html
footprint MUA08A_N (TSOP, 8-Leads, Body 3x3mm, Pitch 0.65mm, IPC Medium Density)
footprint MUA08A_L (TSOP, 8-Leads, Body 3x3mm, Pitch 0.65mm, IPC High Density)
footprint MUA08A_M (TSOP, 8-Leads, Body 3x3mm, Pitch 0.65mm, IPC Low Density)
pins on every part: 4 V- (power), 8 V+ (power)
part A pins: 1 OUTA (out), 2 INA- (in), 3 INA+ (in)
part B pins: 5 INB+ (in), 6 INB- (in), 7 OUTB (out)

## LMP7708MME/NOPB
designator U?
Precision, CMOS Input, RRIO, Wide Supply Range Decompensated Amplifier, 8-pin Mini SOIC, Pb-Free; PartNumber: LMP7708MME/NOPB; Manufacturer: National Semiconductor; PackageTopMarking: ZXTT*AJ4A; PowerWise: Y; CompType: Amplifiers; DatasheetVersion: Jul-2008; PackageVersion: revF, Apr-2008; PackageReference: MUA08A; PackageDescription: MINI SOIC, .118 x .118 x .034in, 8 Lead, .0256in Pitch; RoHS: Y; PinCount: 8; High-Reliability: Y; Code_JEDEC: MO-187-AA; ComponentLink1Description: Manufacturer URL; ComponentLink1URL: http://www.national.com/; ComponentLink2Description: LMP7708 Datasheet; ComponentLink2URL: http://www.national.com/ds/LM/LMP7708.pdf; ComponentLink3Description: LMP7708 Web Page; ComponentLink3URL: http://www.national.com/pf/LM/LMP7708.html; ComponentLink4Description: MUA08A Package Page; ComponentLink4URL: http://www.national.com/packaging/folders/mua08a.html
footprint MUA08A_N (TSOP, 8-Leads, Body 3x3mm, Pitch 0.65mm, IPC Medium Density)
footprint MUA08A_L (TSOP, 8-Leads, Body 3x3mm, Pitch 0.65mm, IPC High Density)
footprint MUA08A_M (TSOP, 8-Leads, Body 3x3mm, Pitch 0.65mm, IPC Low Density)
pins on every part: 4 V- (power), 8 V+ (power)
part A pins: 1 OUTA (out), 2 INA- (in), 3 INA+ (in)
part B pins: 5 INB+ (in), 6 INB- (in), 7 OUTB (out)

## LMP7708MMX/NOPB
designator U?
Precision, CMOS Input, RRIO, Wide Supply Range Decompensated Amplifier, 8-pin Mini SOIC, Pb-Free; PartNumber: LMP7708MMX/NOPB; Manufacturer: National Semiconductor; PackageTopMarking: ZXTT*AJ4A; PowerWise: Y; CompType: Amplifiers; DatasheetVersion: Jul-2008; PackageVersion: revF, Apr-2008; PackageReference: MUA08A; PackageDescription: MINI SOIC, .118 x .118 x .034in, 8 Lead, .0256in Pitch; RoHS: Y; PinCount: 8; High-Reliability: Y; Code_JEDEC: MO-187-AA; ComponentLink1Description: Manufacturer URL; ComponentLink1URL: http://www.national.com/; ComponentLink2Description: LMP7708 Datasheet; ComponentLink2URL: http://www.national.com/ds/LM/LMP7708.pdf; ComponentLink3Description: LMP7708 Web Page; ComponentLink3URL: http://www.national.com/pf/LM/LMP7708.html; ComponentLink4Description: MUA08A Package Page; ComponentLink4URL: http://www.national.com/packaging/folders/mua08a.html
footprint MUA08A_N (TSOP, 8-Leads, Body 3x3mm, Pitch 0.65mm, IPC Medium Density)
footprint MUA08A_L (TSOP, 8-Leads, Body 3x3mm, Pitch 0.65mm, IPC High Density)
footprint MUA08A_M (TSOP, 8-Leads, Body 3x3mm, Pitch 0.65mm, IPC Low Density)
pins on every part: 4 V- (power), 8 V+ (power)
part A pins: 1 OUTA (out), 2 INA- (in), 3 INA+ (in)
part B pins: 5 INB+ (in), 6 INB- (in), 7 OUTB (out)

## LMP7709MA
designator U?
Precision, CMOS Input, RRIO, Wide Supply Range Decompensated Amplifier, 14-pin Narrow SOIC; PartNumber: LMP7709MA; Manufacturer: National Semiconductor; PackageTopMarking: NSUZXYTT*LMP7709*MA; PowerWise: N; CompType: Amplifiers; High-Reliability: Y; DatasheetVersion: Jul-2008; PackageVersion: revJ, Jan-1996; PackageReference: M14A; PackageDescription: Molded Package S.O., .150in Wide, 14 Lead; RoHS: Y; PinCount: 14; Code_JEDEC: MS-012AB; Code_IPC: SOIC127P600-14; ComponentLink1Description: Manufacturer URL; ComponentLink1URL: http://www.national.com/; ComponentLink2Description: LMP7709 Datasheet; ComponentLink2URL: http://www.national.com/ds/LM/LMP7709.pdf; ComponentLink3Description: LMP7709 Web Page; ComponentLink3URL: http://www.national.com/pf/LM/LMP7709.html; ComponentLink4Description: M14A Package Page; ComponentLink4URL: http://www.national.com/packaging/folders/m14a.html
footprint M14A_N (SOIC, 14-Leads, Body 8.6x3.9mm, Pitch 1.27mm, IPC Medium Density)
footprint M14A_L (SOIC, 14-Leads, Body 8.6x3.9mm, Pitch 1.27mm, IPC High Density)
footprint M14A_M (SOIC, 14-Leads, Body 8.6x3.9mm, Pitch 1.27mm, IPC Low Density)
pins on every part: 4 V+ (power), 11 V- (power)
part A pins: 1 OUTA (out), 2 INA- (in), 3 INA+ (in)
part B pins: 5 INB+ (in), 6 INB- (in), 7 OUTB (out)
part C pins: 8 OUTC (out), 9 INC- (in), 10 INC+ (in)
part D pins: 12 IND+ (in), 13 IND- (in), 14 OUTD (out)

## LMP7709MA/NOPB
designator U?
Precision, CMOS Input, RRIO, Wide Supply Range Decompensated Amplifier, 14-pin Narrow SOIC, Pb-Free; PartNumber: LMP7709MA/NOPB; Manufacturer: National Semiconductor; PackageTopMarking: NSUZXYTTE#*LMP7709*MA; PowerWise: N; CompType: Amplifiers; High-Reliability: Y; DatasheetVersion: Jul-2008; PackageVersion: revJ, Jan-1996; PackageReference: M14A; PackageDescription: Molded Package S.O., .150in Wide, 14 Lead; RoHS: Y; PinCount: 14; Code_JEDEC: MS-012AB; Code_IPC: SOIC127P600-14; ComponentLink1Description: Manufacturer URL; ComponentLink1URL: http://www.national.com/; ComponentLink2Description: LMP7709 Datasheet; ComponentLink2URL: http://www.national.com/ds/LM/LMP7709.pdf; ComponentLink3Description: LMP7709 Web Page; ComponentLink3URL: http://www.national.com/pf/LM/LMP7709.html; ComponentLink4Description: M14A Package Page; ComponentLink4URL: http://www.national.com/packaging/folders/m14a.html
footprint M14A_N (SOIC, 14-Leads, Body 8.6x3.9mm, Pitch 1.27mm, IPC Medium Density)
footprint M14A_L (SOIC, 14-Leads, Body 8.6x3.9mm, Pitch 1.27mm, IPC High Density)
footprint M14A_M (SOIC, 14-Leads, Body 8.6x3.9mm, Pitch 1.27mm, IPC Low Density)
pins on every part: 4 V+ (power), 11 V- (power)
part A pins: 1 OUTA (out), 2 INA- (in), 3 INA+ (in)
part B pins: 5 INB+ (in), 6 INB- (in), 7 OUTB (out)
part C pins: 8 OUTC (out), 9 INC- (in), 10 INC+ (in)
part D pins: 12 IND+ (in), 13 IND- (in), 14 OUTD (out)

## LMP7709MAX/NOPB
designator U?
Precision, CMOS Input, RRIO, Wide Supply Range Decompensated Amplifier, 14-pin Narrow SOIC, Pb-Free; PartNumber: LMP7709MAX/NOPB; Manufacturer: National Semiconductor; PackageTopMarking: NSUZXYTTE#*LMP7709*MA; PowerWise: N; CompType: Amplifiers; High-Reliability: Y; DatasheetVersion: Jul-2008; PackageVersion: revJ, Jan-1996; PackageReference: M14A; PackageDescription: Molded Package S.O., .150in Wide, 14 Lead; RoHS: Y; PinCount: 14; Code_JEDEC: MS-012AB; Code_IPC: SOIC127P600-14; ComponentLink1Description: Manufacturer URL; ComponentLink1URL: http://www.national.com/; ComponentLink2Description: LMP7709 Datasheet; ComponentLink2URL: http://www.national.com/ds/LM/LMP7709.pdf; ComponentLink3Description: LMP7709 Web Page; ComponentLink3URL: http://www.national.com/pf/LM/LMP7709.html; ComponentLink4Description: M14A Package Page; ComponentLink4URL: http://www.national.com/packaging/folders/m14a.html
footprint M14A_N (SOIC, 14-Leads, Body 8.6x3.9mm, Pitch 1.27mm, IPC Medium Density)
footprint M14A_L (SOIC, 14-Leads, Body 8.6x3.9mm, Pitch 1.27mm, IPC High Density)
footprint M14A_M (SOIC, 14-Leads, Body 8.6x3.9mm, Pitch 1.27mm, IPC Low Density)
pins on every part: 4 V+ (power), 11 V- (power)
part A pins: 1 OUTA (out), 2 INA- (in), 3 INA+ (in)
part B pins: 5 INB+ (in), 6 INB- (in), 7 OUTB (out)
part C pins: 8 OUTC (out), 9 INC- (in), 10 INC+ (in)
part D pins: 12 IND+ (in), 13 IND- (in), 14 OUTD (out)

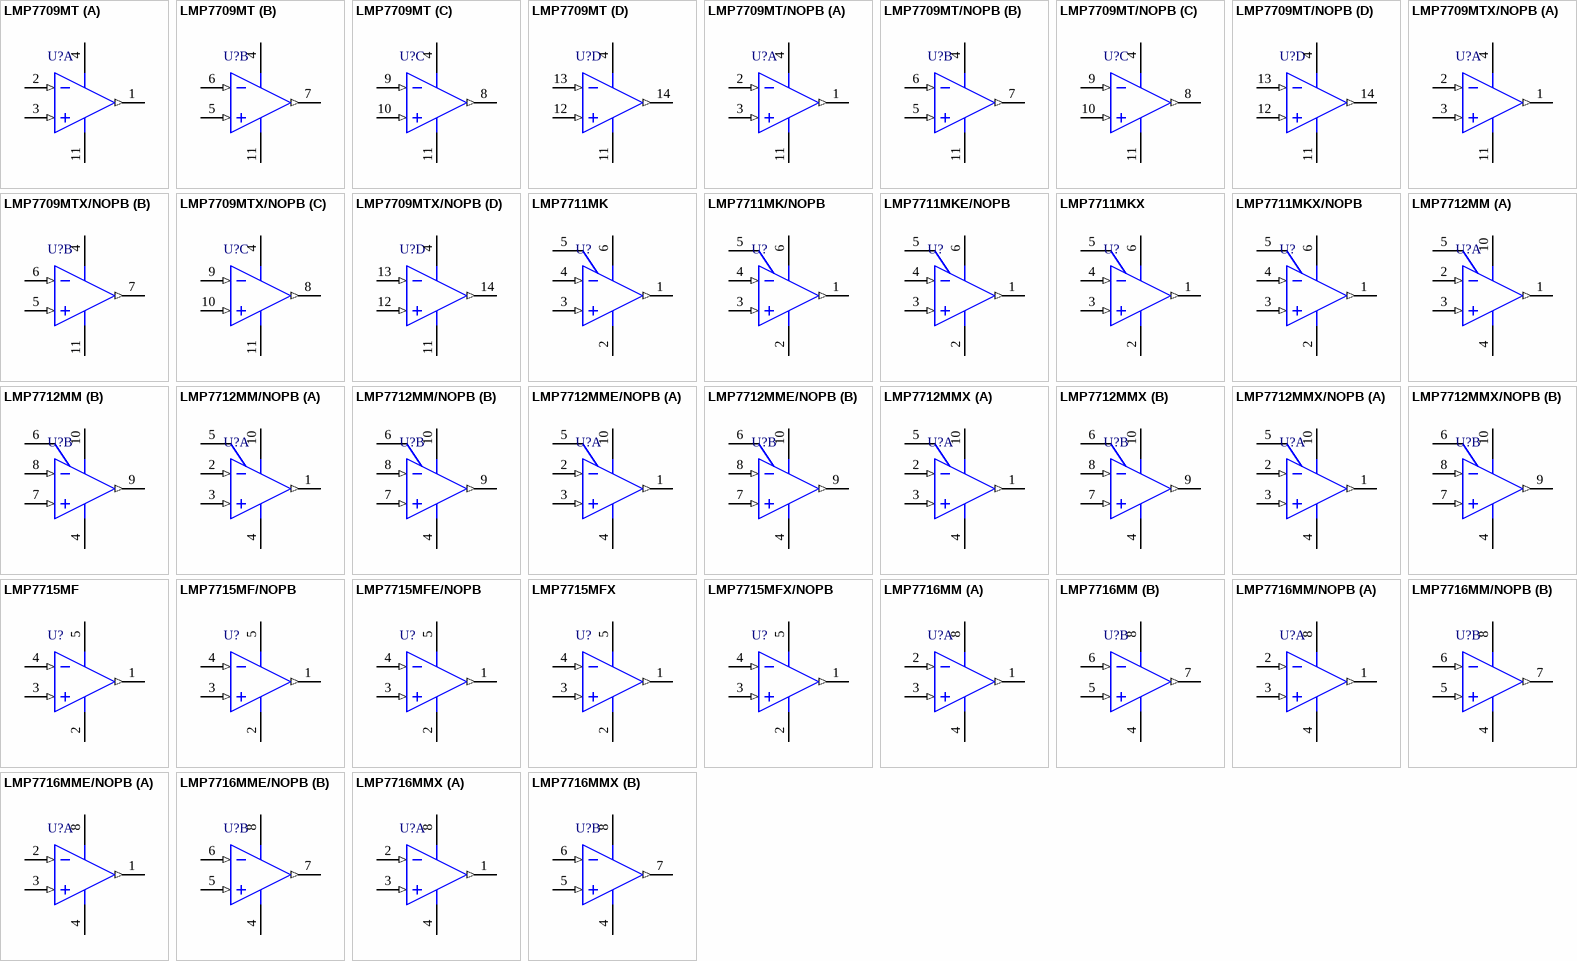
[diagram p61: symbols LMP7709MT to LMP7716MMX]

## LMP7709MT
designator U?
Precision, CMOS Input, RRIO, Wide Supply Range Decompensated Amplifier, 14-pin TSSOP; PartNumber: LMP7709MT; Manufacturer: National Semiconductor; PackageTopMarking: NSUZXYTT*LMP77*09MT; PowerWise: Y; CompType: Amplifiers; DatasheetVersion: Jul-2008; PackageVersion: revD, Jun-2003; PackageReference: MTC14; PackageDescription: Molded TSSOP, JEDEC, 5 x 4.4 x 0.9mm Body, 14 Lead, 0.65mm Pitch; RoHS: Y; PinCount: 14; High-Reliability: Y; Code_JEDEC: MO-153-AB-1; ComponentLink1Description: Manufacturer URL; ComponentLink1URL: http://www.national.com/; ComponentLink2Description: LMP7709 Datasheet; ComponentLink2URL: http://www.national.com/ds/LM/LMP7709.pdf; ComponentLink3Description: LMP7709 Web Page; ComponentLink3URL: http://www.national.com/pf/LM/LMP7709.html; ComponentLink4Description: MTC14 Package Page; ComponentLink4URL: http://www.national.com/packaging/folders/mtc14.html
footprint MTC14_N (TSOP, 14-Leads, Body 5x4.4mm, Pitch 0.65mm, IPC Medium Density)
footprint MTC14_L (TSOP, 14-Leads, Body 5x4.4mm, Pitch 0.65mm, IPC High Density)
footprint MTC14_M (TSOP, 14-Leads, Body 5x4.4mm, Pitch 0.65mm, IPC Low Density)
pins on every part: 4 V+ (power), 11 V- (power)
part A pins: 1 OUTA (out), 2 INA- (in), 3 INA+ (in)
part B pins: 5 INB+ (in), 6 INB- (in), 7 OUTB (out)
part C pins: 8 OUTC (out), 9 INC- (in), 10 INC+ (in)
part D pins: 12 IND+ (in), 13 IND- (in), 14 OUTD (out)

## LMP7709MT/NOPB
designator U?
Precision, CMOS Input, RRIO, Wide Supply Range Decompensated Amplifier, 14-pin TSSOP, Pb-Free; PartNumber: LMP7709MT/NOPB; Manufacturer: National Semiconductor; PackageTopMarking: NSUZXYTT*LMP77*09MT; PowerWise: Y; CompType: Amplifiers; DatasheetVersion: Jul-2008; PackageVersion: revD, Jun-2003; PackageReference: MTC14; PackageDescription: Molded TSSOP, JEDEC, 5 x 4.4 x 0.9mm Body, 14 Lead, 0.65mm Pitch; RoHS: Y; PinCount: 14; High-Reliability: Y; Code_JEDEC: MO-153-AB-1; ComponentLink1Description: Manufacturer URL; ComponentLink1URL: http://www.national.com/; ComponentLink2Description: LMP7709 Datasheet; ComponentLink2URL: http://www.national.com/ds/LM/LMP7709.pdf; ComponentLink3Description: LMP7709 Web Page; ComponentLink3URL: http://www.national.com/pf/LM/LMP7709.html; ComponentLink4Description: MTC14 Package Page; ComponentLink4URL: http://www.national.com/packaging/folders/mtc14.html
footprint MTC14_N (TSOP, 14-Leads, Body 5x4.4mm, Pitch 0.65mm, IPC Medium Density)
footprint MTC14_L (TSOP, 14-Leads, Body 5x4.4mm, Pitch 0.65mm, IPC High Density)
footprint MTC14_M (TSOP, 14-Leads, Body 5x4.4mm, Pitch 0.65mm, IPC Low Density)
pins on every part: 4 V+ (power), 11 V- (power)
part A pins: 1 OUTA (out), 2 INA- (in), 3 INA+ (in)
part B pins: 5 INB+ (in), 6 INB- (in), 7 OUTB (out)
part C pins: 8 OUTC (out), 9 INC- (in), 10 INC+ (in)
part D pins: 12 IND+ (in), 13 IND- (in), 14 OUTD (out)

## LMP7709MTX/NOPB
designator U?
Precision, CMOS Input, RRIO, Wide Supply Range Decompensated Amplifier, 14-pin TSSOP, Pb-Free; PartNumber: LMP7709MTX/NOPB; Manufacturer: National Semiconductor; PackageTopMarking: NSUZXYTT*LMP77*09MT; PowerWise: Y; CompType: Amplifiers; DatasheetVersion: Jul-2008; PackageVersion: revD, Jun-2003; PackageReference: MTC14; PackageDescription: Molded TSSOP, JEDEC, 5 x 4.4 x 0.9mm Body, 14 Lead, 0.65mm Pitch; RoHS: Y; PinCount: 14; High-Reliability: Y; Code_JEDEC: MO-153-AB-1; ComponentLink1Description: Manufacturer URL; ComponentLink1URL: http://www.national.com/; ComponentLink2Description: LMP7709 Datasheet; ComponentLink2URL: http://www.national.com/ds/LM/LMP7709.pdf; ComponentLink3Description: LMP7709 Web Page; ComponentLink3URL: http://www.national.com/pf/LM/LMP7709.html; ComponentLink4Description: MTC14 Package Page; ComponentLink4URL: http://www.national.com/packaging/folders/mtc14.html
footprint MTC14_N (TSOP, 14-Leads, Body 5x4.4mm, Pitch 0.65mm, IPC Medium Density)
footprint MTC14_L (TSOP, 14-Leads, Body 5x4.4mm, Pitch 0.65mm, IPC High Density)
footprint MTC14_M (TSOP, 14-Leads, Body 5x4.4mm, Pitch 0.65mm, IPC Low Density)
pins on every part: 4 V+ (power), 11 V- (power)
part A pins: 1 OUTA (out), 2 INA- (in), 3 INA+ (in)
part B pins: 5 INB+ (in), 6 INB- (in), 7 OUTB (out)
part C pins: 8 OUTC (out), 9 INC- (in), 10 INC+ (in)
part D pins: 12 IND+ (in), 13 IND- (in), 14 OUTD (out)

## LMP7711MK
designator U?
Single Precision, 17 MHz, Low Noise, CMOS Input Amplifier, 6-pin Tiny SOT23; PartNumber: LMP7711MK; Manufacturer: National Semiconductor; PackageTopMarking: AC3A*XTT; PowerWise: Y; CompType: Amplifiers; DatasheetVersion: Jul-2008; PackageVersion: revE, Nov-2008; PackageReference: MK06A; PackageDescription: Molded TSOT, 2.97 x 1.65 x 0.87mm Body, 6 Lead, 0.95mm Pitch; RoHS: N; PinCount: 6; High-Reliability: Y; Code_JEDEC: MO-193-AA; Code_IPC: SOT26A-6; ComponentLink1Description: Manufacturer URL; ComponentLink1URL: http://www.national.com/; ComponentLink2Description: LMP7711 Datasheet; ComponentLink2URL: http://www.national.com/ds/LM/LMP7711.pdf; ComponentLink3Description: LMP7711 Web Page; ComponentLink3URL: http://www.national.com/pf/LM/LMP7711.html; ComponentLink4Description: MK06A Package Page; ComponentLink4URL: http://www.national.com/packaging/folders/mk06a.html
footprint MK06A_N (SOT23, 6-Leads, Body 3.0x1.7mm, Pitch 0.95mm, Lead Span 2.9mm, IPC Medium Density)
footprint MK06A_L (SOT23, 6-Leads, Body 3.0x1.7mm, Pitch 0.95mm, Lead Span 2.9mm, IPC High Density)
footprint MK06A_M (SOT23, 6-Leads, Body 3.0x1.7mm, Pitch 0.95mm, Lead Span 2.9mm, IPC Low Density)
pins: 1 OUT (out), 2 V- (power), 3 IN+ (in), 4 IN- (in), 5 EN, 6 V+ (power)

## LMP7711MK/NOPB
designator U?
Single Precision, 17 MHz, Low Noise, CMOS Input Amplifier, 6-pin Tiny SOT23, Pb-Free; PartNumber: LMP7711MK/NOPB; Manufacturer: National Semiconductor; PackageTopMarking: AC3A*XTT; PowerWise: Y; CompType: Amplifiers; DatasheetVersion: Jul-2008; PackageVersion: revE, Nov-2008; PackageReference: MK06A; PackageDescription: Molded TSOT, 2.97 x 1.65 x 0.87mm Body, 6 Lead, 0.95mm Pitch; RoHS: Y; PinCount: 6; High-Reliability: Y; Code_JEDEC: MO-193-AA; Code_IPC: SOT26A-6; ComponentLink1Description: Manufacturer URL; ComponentLink1URL: http://www.national.com/; ComponentLink2Description: LMP7711 Datasheet; ComponentLink2URL: http://www.national.com/ds/LM/LMP7711.pdf; ComponentLink3Description: LMP7711 Web Page; ComponentLink3URL: http://www.national.com/pf/LM/LMP7711.html; ComponentLink4Description: MK06A Package Page; ComponentLink4URL: http://www.national.com/packaging/folders/mk06a.html
footprint MK06A_N (SOT23, 6-Leads, Body 3.0x1.7mm, Pitch 0.95mm, Lead Span 2.9mm, IPC Medium Density)
footprint MK06A_L (SOT23, 6-Leads, Body 3.0x1.7mm, Pitch 0.95mm, Lead Span 2.9mm, IPC High Density)
footprint MK06A_M (SOT23, 6-Leads, Body 3.0x1.7mm, Pitch 0.95mm, Lead Span 2.9mm, IPC Low Density)
pins: 1 OUT (out), 2 V- (power), 3 IN+ (in), 4 IN- (in), 5 EN, 6 V+ (power)

## LMP7711MKE/NOPB
designator U?
Single Precision, 17 MHz, Low Noise, CMOS Input Amplifier, 6-pin Tiny SOT23, Pb-Free; PartNumber: LMP7711MKE/NOPB; Manufacturer: National Semiconductor; PackageTopMarking: AC3A*XTT; PowerWise: N; CompType: Amplifiers; High-Reliability: Y; DatasheetVersion: Jul-2008; PackageVersion: revE, Nov-2008; PackageReference: MK06A; PackageDescription: Molded TSOT, 2.97 x 1.65 x 0.87mm Body, 6 Lead, 0.95mm Pitch; RoHS: Y; PinCount: 6; Code_JEDEC: MO-193-AA; Code_IPC: SOT26A-6; ComponentLink1Description: Manufacturer URL; ComponentLink1URL: http://www.national.com/; ComponentLink2Description: LMP7711 Datasheet; ComponentLink2URL: http://www.national.com/ds/LM/LMP7711.pdf; ComponentLink3Description: LMP7711 Web Page; ComponentLink3URL: http://www.national.com/pf/LM/LMP7711.html; ComponentLink4Description: MK06A Package Page; ComponentLink4URL: http://www.national.com/packaging/folders/mk06a.html
footprint MK06A_N (SOT23, 6-Leads, Body 3.0x1.7mm, Pitch 0.95mm, Lead Span 2.9mm, IPC Medium Density)
footprint MK06A_L (SOT23, 6-Leads, Body 3.0x1.7mm, Pitch 0.95mm, Lead Span 2.9mm, IPC High Density)
footprint MK06A_M (SOT23, 6-Leads, Body 3.0x1.7mm, Pitch 0.95mm, Lead Span 2.9mm, IPC Low Density)
pins: 1 OUT (out), 2 V- (power), 3 IN+ (in), 4 IN- (in), 5 EN, 6 V+ (power)

## LMP7711MKX
designator U?
Single Precision, 17 MHz, Low Noise, CMOS Input Amplifier, 6-pin Tiny SOT23; PartNumber: LMP7711MKX; Manufacturer: National Semiconductor; PackageTopMarking: AC3A*XTT; PowerWise: Y; CompType: Amplifiers; DatasheetVersion: Jul-2008; PackageVersion: revE, Nov-2008; PackageReference: MK06A; PackageDescription: Molded TSOT, 2.97 x 1.65 x 0.87mm Body, 6 Lead, 0.95mm Pitch; RoHS: N; PinCount: 6; High-Reliability: Y; Code_JEDEC: MO-193-AA; Code_IPC: SOT26A-6; ComponentLink1Description: Manufacturer URL; ComponentLink1URL: http://www.national.com/; ComponentLink2Description: LMP7711 Datasheet; ComponentLink2URL: http://www.national.com/ds/LM/LMP7711.pdf; ComponentLink3Description: LMP7711 Web Page; ComponentLink3URL: http://www.national.com/pf/LM/LMP7711.html; ComponentLink4Description: MK06A Package Page; ComponentLink4URL: http://www.national.com/packaging/folders/mk06a.html
footprint MK06A_N (SOT23, 6-Leads, Body 3.0x1.7mm, Pitch 0.95mm, Lead Span 2.9mm, IPC Medium Density)
footprint MK06A_L (SOT23, 6-Leads, Body 3.0x1.7mm, Pitch 0.95mm, Lead Span 2.9mm, IPC High Density)
footprint MK06A_M (SOT23, 6-Leads, Body 3.0x1.7mm, Pitch 0.95mm, Lead Span 2.9mm, IPC Low Density)
pins: 1 OUT (out), 2 V- (power), 3 IN+ (in), 4 IN- (in), 5 EN, 6 V+ (power)

## LMP7711MKX/NOPB
designator U?
Single Precision, 17 MHz, Low Noise, CMOS Input Amplifier, 6-pin Tiny SOT23, Pb-Free; PartNumber: LMP7711MKX/NOPB; Manufacturer: National Semiconductor; PackageTopMarking: AC3A*XTT; PowerWise: Y; CompType: Amplifiers; DatasheetVersion: Jul-2008; PackageVersion: revE, Nov-2008; PackageReference: MK06A; PackageDescription: Molded TSOT, 2.97 x 1.65 x 0.87mm Body, 6 Lead, 0.95mm Pitch; RoHS: Y; PinCount: 6; High-Reliability: Y; Code_JEDEC: MO-193-AA; Code_IPC: SOT26A-6; ComponentLink1Description: Manufacturer URL; ComponentLink1URL: http://www.national.com/; ComponentLink2Description: LMP7711 Datasheet; ComponentLink2URL: http://www.national.com/ds/LM/LMP7711.pdf; ComponentLink3Description: LMP7711 Web Page; ComponentLink3URL: http://www.national.com/pf/LM/LMP7711.html; ComponentLink4Description: MK06A Package Page; ComponentLink4URL: http://www.national.com/packaging/folders/mk06a.html
footprint MK06A_N (SOT23, 6-Leads, Body 3.0x1.7mm, Pitch 0.95mm, Lead Span 2.9mm, IPC Medium Density)
footprint MK06A_L (SOT23, 6-Leads, Body 3.0x1.7mm, Pitch 0.95mm, Lead Span 2.9mm, IPC High Density)
footprint MK06A_M (SOT23, 6-Leads, Body 3.0x1.7mm, Pitch 0.95mm, Lead Span 2.9mm, IPC Low Density)
pins: 1 OUT (out), 2 V- (power), 3 IN+ (in), 4 IN- (in), 5 EN, 6 V+ (power)